# Altium footprint library SC_SDIP6.PcbLib: 1 footprints
Each footprint in its own frame and in the unit in brackets; x right, y up, seen from the top. Pads: shape width x height; smd on the part's side, far side on the other; paste and mask are expansions set on the pad; w line width, h text height; cw(c..) or ccw(c..) is an arc to the next point about the centre after c.
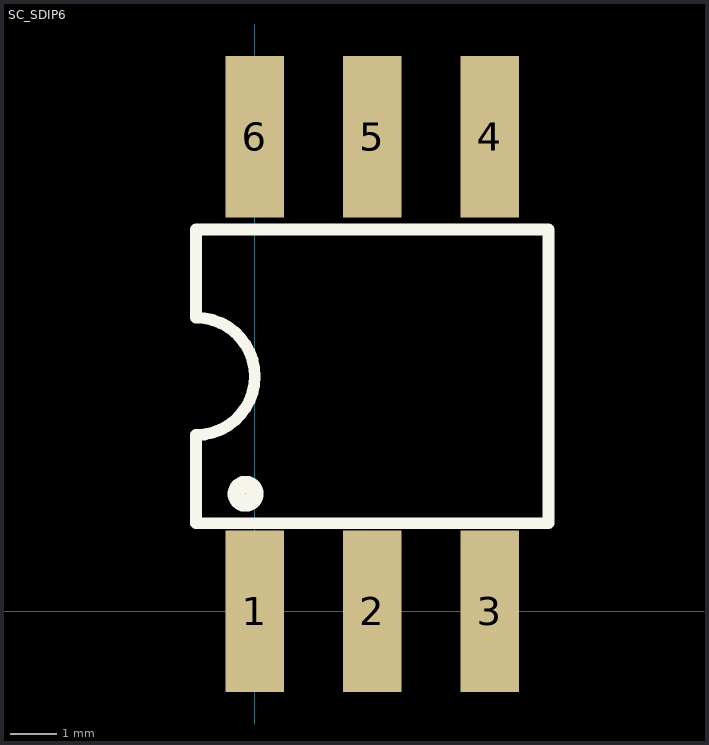
[diagram p0: the footprint, top view; thin cyan lines are the x and y axes]

## SC_SDIP6 [mm]
pads (6):
  rect 1.27x3.5 smd: 1(0,0) 2(2.54,0) 3(5.08,0) 4(5.08,10.26) 5(2.54,10.26) 6(0,10.26)
Top Overlay:
  circle w0.38: c-0.198,2.54 r0.198
  lines w0.254: -1.27,1.905 -1.27,3.81 ccw(c-1.27,5.08) 0,5.08 ccw(c-1.27,5.08) -1.27,6.35 -1.27,8.255 6.35,8.255 6.35,1.905 -1.27,1.905
3D body: height 5.11, standoff -0.01, extent -1.905,0.128 6.985,10.032